# Altium schematic symbol library IC_PIC16F687.SchLib: 1 symbol
Pins are listed as number, name and electrical type; pins without a type are passive.

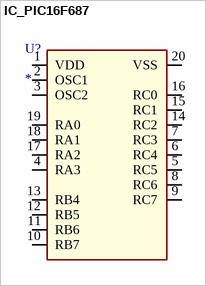
[diagram p0: symbol IC_PIC16F687]

## IC_PIC16F687
designator U?
pins: 1 VDD, 2 OSC1, 3 OSC2, 4 RA3, 5 RC5, 6 RC4, 7 RC3, 8 RC6, 9 RC7, 10 RB7, 11 RB6, 12 RB5, 13 RB4, 14 RC2, 15 RC1, 16 RC0, 17 RA2, 18 RA1, 19 RA0, 20 VSS